# EAGLE library part INSECTCHIP3B (library harrison)
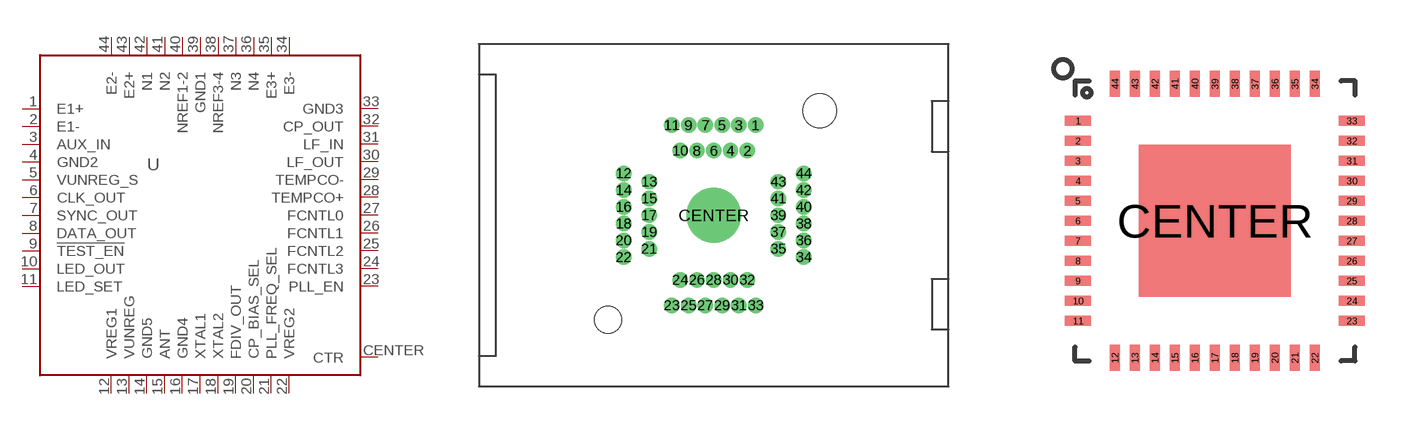
[diagram p59: symbol with the pads of ZIF_QFN44_7_X_7; footprints ZIF_QFN44_7_X_7, QFN44_7_X_7]

Designator prefix U

## INSECTCHIP3B_ZIF  [ZIF_QFN44_7_X_7]
1  E1+  in
2  E1-  in
3  AUX_IN  in
4  GND2  pwr
5  VUNREG_S  pwr
6  CLK_OUT  out
7  SYNC_OUT  out
8  DATA_OUT  out
9  !TEST_EN!  in
10  LED_OUT  pas
11  LED_SET  pas
12  VREG1  pwr
13  VUNREG  pwr
14  GND5  pwr
15  ANT  pas
16  GND4  pwr
17  XTAL1  pas
18  XTAL2  pas
19  FDIV_OUT  out
20  CP_BIAS_SEL  in
21  PLL_FREQ_SEL  in
22  VREG2  pwr
23  PLL_EN  in
24  FCNTL3  in
25  FCNTL2  in
26  FCNTL1  in
27  FCNTL0  in
28  TEMPCO+  pas
29  TEMPCO-  pas
30  LF_OUT  pas
31  LF_IN  pas
32  CP_OUT  pas
33  GND3  pwr
34  E3-  in
35  E3+  in
36  N4  in
37  N3  in
38  NREF3-4  in
39  GND1  pwr
40  NREF1-2  in
41  N2  in
42  N1  in
43  E2+  in
44  E2-  in
CENTER  CTR  pwr

## INSECTCHIP3B_QFN  [QFN44_7_X_7]
Pads as for ZIF_QFN44_7_X_7

## Footprint ZIF_QFN44_7_X_7 (pad centres in mm)
drill 0.41 pad 0.813: 1 2.5,5.37; 2 2,3.85; 3 1.5,5.37; 4 1,3.85; 5 0.5,5.37; 6 0,3.85; 7 -0.5,5.37; 8 -1,3.85; 9 -1.5,5.37; 10 -2,3.85; 11 -2.5,5.37; 12 -5.37,2.5; 13 -3.85,2; 14 -5.37,1.5; 15 -3.85,1; 16 -5.37,0.5; 17 -3.85,0; 18 -5.37,-0.5; 19 -3.85,-1; 20 -5.37,-1.5; 21 -3.85,-2; 22 -5.37,-2.5; 23 -2.5,-5.37; 24 -2,-3.85; 25 -1.5,-5.37; 26 -1,-3.85; 27 -0.5,-5.37; 28 0,-3.85; 29 0.5,-5.37; 30 1,-3.85; 31 1.5,-5.37; 32 2,-3.85; 33 2.5,-5.37; 34 5.37,-2.5; 35 3.85,-2; 36 5.37,-1.5; 37 3.85,-1; 38 5.37,-0.5; 39 3.85,0; 40 5.37,0.5; 41 3.85,1; 42 5.37,1.5; 43 3.85,2; 44 5.37,2.5
drill 2.26 pad 2.9: CENTER 0,0
hole 1.6 at -6.31,-6.23
hole 2 at 6.31,6.23

## Footprint QFN44_7_X_7 (pad centres in mm)
smd 0.65 x 0.25: 1 -3.425,2.5; 2 -3.425,2; 3 -3.425,1.5; 4 -3.425,1; 5 -3.425,0.5; 6 -3.425,0; 7 -3.425,-0.5; 8 -3.425,-1; 9 -3.425,-1.5; 10 -3.425,-2; 11 -3.425,-2.5; 23 3.425,-2.5; 24 3.425,-2; 25 3.425,-1.5; 26 3.425,-1; 27 3.425,-0.5; 28 3.425,0; 29 3.425,0.5; 30 3.425,1; 31 3.425,1.5; 32 3.425,2; 33 3.425,2.5
smd 0.25 x 0.65: 12 -2.5,-3.425; 13 -2,-3.425; 14 -1.5,-3.425; 15 -1,-3.425; 16 -0.5,-3.425; 17 0,-3.425; 18 0.5,-3.425; 19 1,-3.425; 20 1.5,-3.425; 21 2,-3.425; 22 2.5,-3.425; 34 2.5,3.425; 35 2,3.425; 36 1.5,3.425; 37 1,3.425; 38 0.5,3.425; 39 0,3.425; 40 -0.5,3.425; 41 -1,3.425; 42 -1.5,3.425; 43 -2,3.425; 44 -2.5,3.425
smd 3.8 x 3.8: CENTER 0,0